# Altium footprint library JLC_25.PcbLib: 87 footprints (part 2 of 6)
Each footprint in its own frame and in the unit in brackets; x right, y up, seen from the top. Pads: shape width x height; smd on the part's side, far side on the other; paste and mask are expansions set on the pad; w line width, h text height; cw(c..) or ccw(c..) is an arc to the next point about the centre after c.
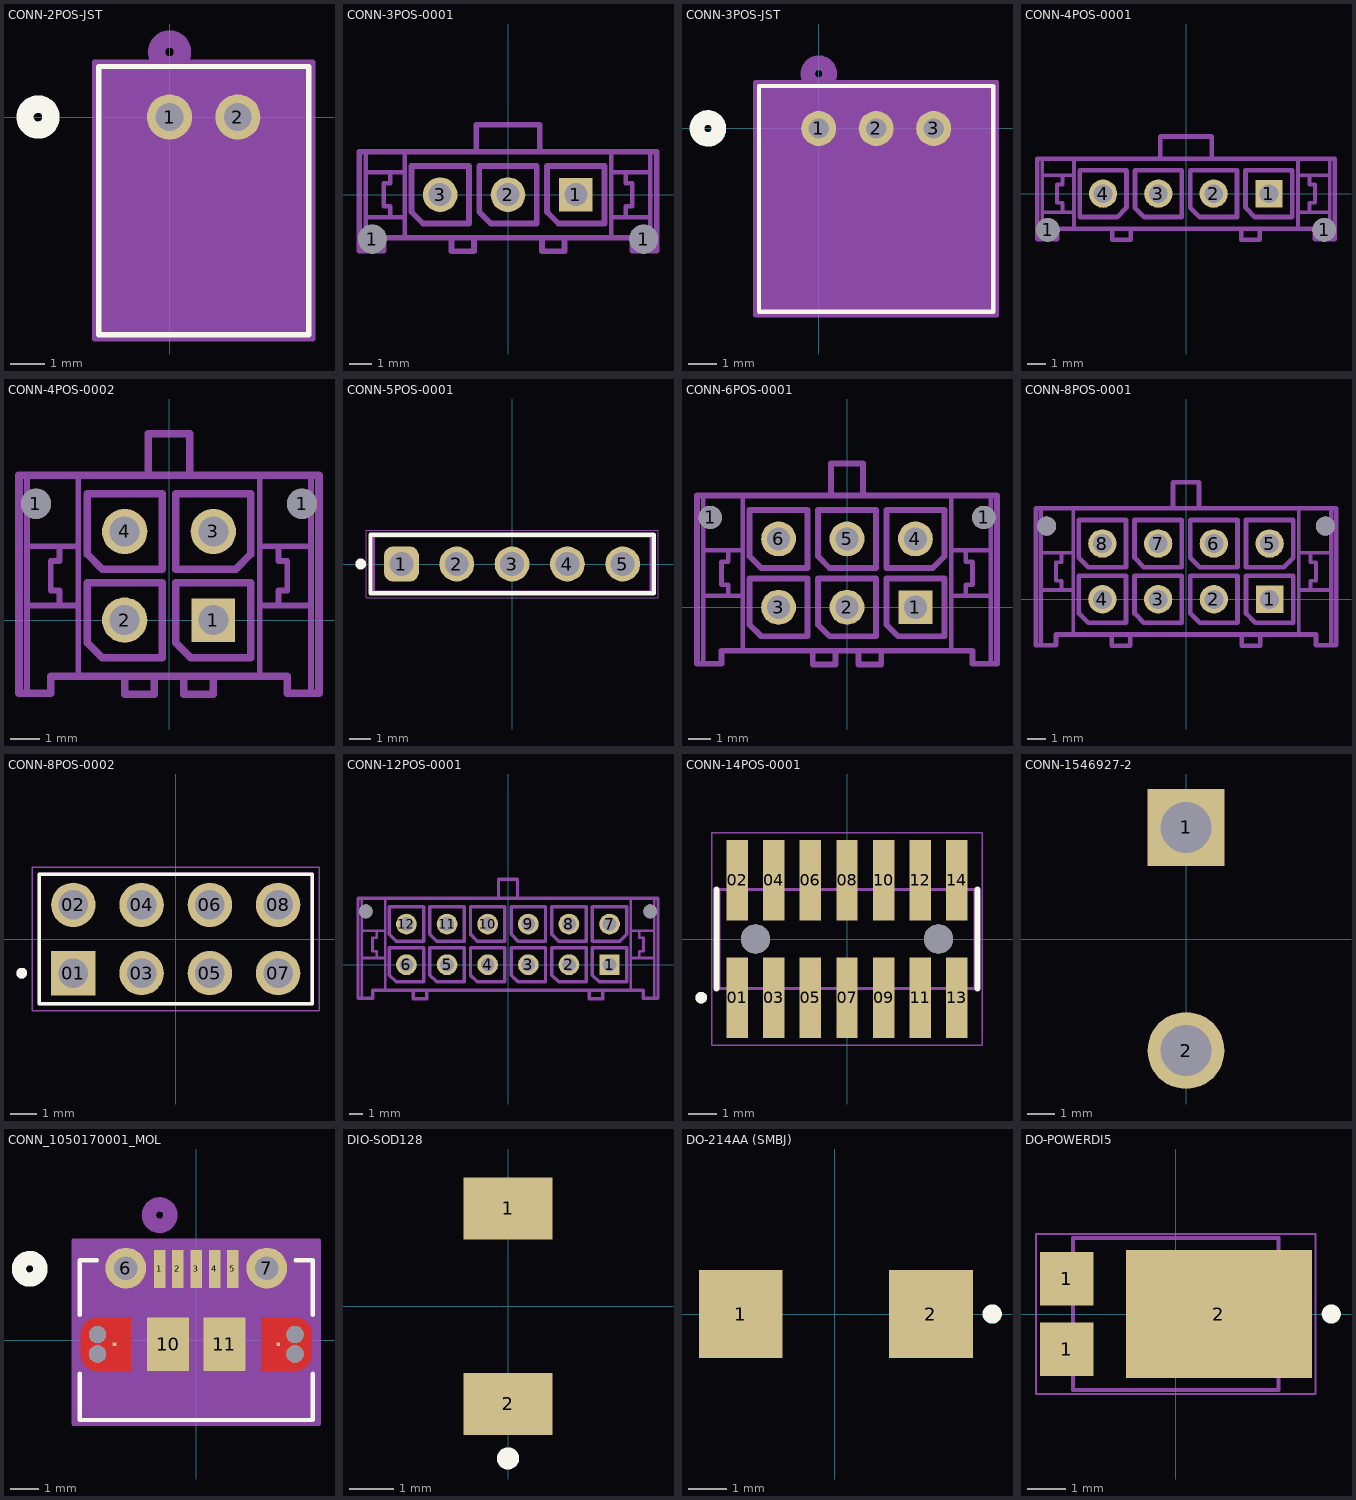
[diagram p1: the footprints below, top view; thin cyan lines are the x and y axes]

## CONN-2POS-JST [mil]
pads (2):
  round 52 / inner round 60 / far side round 52 hole 32 paste-99999 mask+0: 1(0,0) 2(78.74,0)
Top Overlay:
  circle w20: c-151.63,0 r15
  lines w6: -81.63,-250.85 -81.63,58.15 160.37,58.15 160.37,-250.85 -81.63,-250.85
Bottom Overlay:
  circle w20: c-151.63,0 r15
Mechanical 13:
  circle w20: c0,75 r15
  lines w1: -76.63,-245.85 -76.63,53.15 155.37,53.15 155.37,-245.85 -76.63,-245.85
Mechanical 15:
  region: 165.37,63.15 -86.63,63.15 -86.63,-255.85 165.37,-255.85
  lines w6: -86.63,-255.85 165.37,-255.85 165.37,63.15 -86.63,63.15 -86.63,-255.85
3D body "S2B-PH-K-S.STEP": height 188.98, standoff -133.19, extent -81.63,-245.96 150.65,53.26

## CONN-3POS-0001 [mm]
pads (5):
  round 1.27 hole 1.27 unplated: 1(-6,-1.96) 1(6,-1.96)
  rect 1.482x1.482 / inner rect 1.524x1.524 / far side rect 1.482x1.482 hole 1.02: 1(3,0)
  round 1.53 / inner round 1.524 / far side round 1.53 hole 1.02: 2(0,0) 3(-3,0)
Mechanical 22:
  lines w0.2: -6.3,-2.47 -6.3,-1 ; -6.3,1.9 -6.3,1 ; -4.57,-1.9 -4.57,-1 ; -4.57,1.9 -4.57,1 ; 4.57,-1.9 4.57,-1 ; 4.57,1.9 4.57,1 ; 6.3,-2.47 6.3,-1 ; 6.3,1.9 6.3,1 ; -6.3,-1 -5.2,-1 ; -6.3,-1 -6.3,1 ; -6.3,1 -5.2,1 ; -5.2,-1 -5.2,-0.5 -5.5,-0.5 -5.5,0.5 -5.2,0.5 -5.2,1 ; -5.2,-1 -4.57,-1 ; -5.2,1 -4.57,1 ; -4.57,-1 -4.57,1 ; 4.57,-1 5.2,-1 ; 4.57,-1 4.57,1 ; 4.57,1 5.2,1 ; 5.2,-1 5.2,-0.5 5.5,-0.5 5.5,0.5 5.2,0.5 5.2,1 ; 5.2,-1 6.3,-1 ; 5.2,1 6.3,1 ; 6.3,-1 6.3,1
  lines w0.254: -2.5,-1.9 -2.5,-2.5 -1.5,-2.5 -1.5,-1.9 ; -2.5,-1.9 -4.57,-1.9 -5.5,-1.9 -5.5,-2.47 -6.3,-2.47 -6.575,-2.47 -6.575,1.9 -6.3,1.9 -4.57,1.9 -1.4,1.9 ; -2.5,-1.9 -1.5,-1.9 ; -1.5,-1.9 1.5,-1.9 ; -1.4,1.9 -1.4,3.1 1.4,3.1 1.4,1.9 ; -1.4,1.9 1.4,1.9 ; 1.4,1.9 4.57,1.9 6.3,1.9 6.575,1.9 6.575,-2.47 6.3,-2.47 5.5,-2.47 5.5,-1.9 4.57,-1.9 2.5,-1.9 ; 1.5,-1.9 1.5,-2.5 2.5,-2.5 2.5,-1.9 ; 1.5,-1.9 2.5,-1.9 ; -4.27,-0.762 -3.762,-1.27 -1.73,-1.27 -1.73,1.27 -4.27,1.27 -4.27,-0.762 ; -1.27,-0.762 -0.762,-1.27 1.27,-1.27 1.27,1.27 -1.27,1.27 -1.27,-0.762 ; 1.73,-0.762 2.238,-1.27 4.27,-1.27 4.27,1.27 1.73,1.27 1.73,-0.762
3D body "436500316.stp": height 10.03, standoff -3.05, extent -6.325,-2.47 6.325,3.135

## CONN-3POS-JST [mil]
pads (3):
  round 48 / inner round 60 / far side round 48 hole 28 paste-99999 mask+0: 1(0,0) 2(78.74,0) 3(157.48,0)
Top Overlay:
  circle w20: c-151.76,0 r15
  lines w6: -81.76,-250.85 239.24,-250.85 239.24,58.15 -81.76,58.15 -81.76,-250.85
Bottom Overlay:
  circle w20: c-151.76,0 r15
Mechanical 13:
  circle w20: c0,75 r15
  lines w1: -76.76,-245.85 234.24,-245.85 234.24,53.15 -76.76,53.15 -76.76,-245.85
Mechanical 15:
  region: 244.24,63.15 -86.76,63.15 -86.76,-255.85 244.24,-255.85
  lines w6: -86.76,-255.85 -86.76,63.15 244.24,63.15 244.24,-255.85 -86.76,-255.85
3D body "S3B-PH-K-S.STEP": height 188.98, standoff -133.87, extent -76.77,-246.06 234.25,53.15

## CONN-4POS-0001 [mm]
pads (6):
  round 1.27 hole 1.27 unplated: 1(-7.5,-1.96) 1(7.5,-1.96)
  rect 1.482x1.482 / inner rect 1.524x1.524 / far side rect 1.482x1.482 hole 1.02: 1(4.5,0)
  round 1.53 / inner round 1.524 / far side round 1.53 hole 1.02: 2(1.5,0) 3(-1.5,0) 4(-4.5,0)
Mechanical 22:
  lines w0.2: -7.8,-2.47 -7.8,-1 ; -7.8,1.9 -7.8,1 ; -6.07,-1.9 -6.07,-1 ; -6.07,1.9 -6.07,1 ; 6.07,-1.9 6.07,-1 ; 6.07,1.9 6.07,1 ; 7.8,-2.47 7.8,-1 ; 7.8,1.9 7.8,1 ; -7.8,-1 -7.8,1 ; -7.8,-1 -6.7,-1 ; -7.8,1 -6.7,1 ; -6.7,-1 -6.07,-1 ; -6.7,-1 -6.7,-0.5 -7,-0.5 -7,0.5 -6.7,0.5 -6.7,1 ; -6.7,1 -6.07,1 ; -6.07,-1 -6.07,1 ; 6.07,-1 6.07,1 ; 6.07,-1 6.7,-1 ; 6.07,1 6.7,1 ; 6.7,-1 7.8,-1 ; 6.7,-1 6.7,-0.5 7,-0.5 7,0.5 6.7,0.5 6.7,1 ; 6.7,1 7.8,1 ; 7.8,-1 7.8,1
  lines w0.254: -4,-1.9 -3,-1.9 ; -4,-1.9 -6.07,-1.9 -7,-1.9 -7,-2.47 -7.8,-2.47 -8.075,-2.47 -8.075,1.9 -7.8,1.9 -6.07,1.9 -1.4,1.9 ; -4,-1.9 -4,-2.5 -3,-2.5 -3,-1.9 ; -3,-1.9 3,-1.9 ; -1.4,1.9 1.4,1.9 ; -1.4,1.9 -1.4,3.1 1.4,3.1 1.4,1.9 ; 1.4,1.9 6.07,1.9 7.8,1.9 8.075,1.9 8.075,-2.47 7.8,-2.47 7,-2.47 7,-1.9 6.07,-1.9 4,-1.9 ; 3,-1.9 4,-1.9 ; 3,-1.9 3,-2.5 4,-2.5 4,-1.9 ; -5.77,-1.27 -5.77,1.27 -3.23,1.27 -3.23,-0.762 -3.738,-1.27 -5.77,-1.27 ; -2.77,-0.762 -2.77,1.27 -0.23,1.27 -0.23,-1.27 -2.262,-1.27 -2.77,-0.762 ; 0.23,-0.762 0.23,1.27 2.77,1.27 2.77,-1.27 0.738,-1.27 0.23,-0.762 ; 3.23,-0.762 3.23,1.27 5.77,1.27 5.77,-1.27 3.738,-1.27 3.23,-0.762
3D body "436500415.stp": height 10.03, standoff -3.05, extent -7.825,-2.47 7.825,3.135

## CONN-4POS-0002 [mm]
pads (6):
  round 1.02 hole 1.02 unplated: 1(-4.5,3.94) 1(4.5,3.94)
  rect 1.482x1.482 / inner rect 1.524x1.524 / far side rect 1.482x1.482 hole 1.02: 1(1.5,0)
  round 1.53 / inner round 1.524 / far side round 1.53 hole 1.02: 2(-1.5,0) 3(1.5,3) 4(-1.5,3)
Mechanical 22:
  lines w0.2: -4.8,-2.47 -4.8,0.5 ; -4.8,4.9 -4.8,2.5 ; -3.07,-1.9 -3.07,0.5 ; -3.07,4.9 -3.07,2.5 ; 3.07,-1.9 3.07,0.5 ; 3.07,4.9 3.07,2.5 ; 4.8,-2.47 4.8,0.5 ; 4.8,4.9 4.8,2.5 ; -4.8,0.5 -3.7,0.5 ; -4.8,0.5 -4.8,2.5 ; -4.8,2.5 -3.7,2.5 ; -3.7,0.5 -3.7,1 -4,1 -4,2 -3.7,2 -3.7,2.5 ; -3.7,0.5 -3.07,0.5 ; -3.7,2.5 -3.07,2.5 ; -3.07,0.5 -3.07,2.5 ; 3.07,0.5 3.7,0.5 ; 3.07,0.5 3.07,2.5 ; 3.07,2.5 3.7,2.5 ; 3.7,0.5 3.7,1 4,1 4,2 3.7,2 3.7,2.5 ; 3.7,0.5 4.8,0.5 ; 3.7,2.5 4.8,2.5 ; 4.8,0.5 4.8,2.5
  lines w0.254: -1.5,-1.9 -1.5,-2.5 -0.5,-2.5 -0.5,-1.9 ; -1.5,-1.9 -3.07,-1.9 -4,-1.9 -4,-2.47 -4.8,-2.47 -5.075,-2.47 -5.075,4.9 -4.8,4.9 -3.07,4.9 -0.7,4.9 ; -1.5,-1.9 -0.5,-1.9 ; -0.7,4.9 -0.7,6.3 0.7,6.3 0.7,4.9 ; -0.7,4.9 0.7,4.9 ; -0.5,-1.9 0.5,-1.9 ; 0.5,-1.9 0.5,-2.5 1.5,-2.5 1.5,-1.9 ; 0.5,-1.9 1.5,-1.9 ; 0.7,4.9 3.07,4.9 4.8,4.9 5.075,4.9 5.075,-2.47 4.8,-2.47 4,-2.47 4,-1.9 3.07,-1.9 1.5,-1.9 ; -2.77,-0.762 -2.262,-1.27 -0.23,-1.27 -0.23,1.27 -2.77,1.27 -2.77,-0.762 ; -2.77,2.238 -2.262,1.73 -0.23,1.73 -0.23,4.27 -2.77,4.27 -2.77,2.238 ; 0.23,-0.762 0.738,-1.27 2.77,-1.27 2.77,1.27 0.23,1.27 0.23,-0.762
Bottom 3D Body:
  lines w0.254: 0.23,1.73 2.262,1.73 2.77,2.238 2.77,4.27 0.23,4.27 0.23,1.73
3D body "430450412.stp": height 10.03, standoff -3.06, extent -5.075,-2.446 5.075,6.324

## CONN-5POS-0001 [mm] "Pin Header, pitch 2.54 mm, THT, Vertical, single row, 5p"
height 8.54
pads (5):
  rrect50% 1.6x1.6 hole 1.1: 1(-5.08,0)
  round 1.6 hole 1.1: 2(-2.54,0) 3(0,0) 4(2.54,0) 5(5.08,0)
Top Overlay:
  circle w0.25: c-6.95,0 r0.125
  lines w0.2: -6.5,-1.345 6.5,-1.345 6.5,1.345 -6.5,1.345 -6.5,-1.345
Top Courtyard:
  lines w0.05: -6.7,-1.545 -6.7,1.545 6.7,1.545 6.7,-1.545 -6.7,-1.545
Top Component Outline:
  lines w0.1: -6.35,-1.27 -6.35,1.27 6.35,1.27 6.35,-1.27 -6.35,-1.27
Top Component Center:
  lines w0.05: -0.5,0 0.5,0 ; 0,-0.5 0,0.5
3D body "61300511121.stp": height 8.57, standoff -2.97, extent -6.35,-1.27 6.35,1.27

## CONN-6POS-0001 [mm]
pads (8):
  round 1.02 hole 1.02 unplated: 1(-6,3.94) 1(6,3.94)
  rect 1.482x1.482 / inner rect 1.524x1.524 / far side rect 1.482x1.482 hole 1.02: 1(3,0)
  round 1.53 / inner round 1.524 / far side round 1.53 hole 1.02: 2(0,0) 3(-3,0) 4(3,3) 5(0,3) 6(-3,3)
Mechanical 22:
  lines w0.2: -6.3,-2.47 -6.3,-1.7 -6.3,-1 -6.3,0.5 ; -6.3,4.9 -6.3,4 -6.3,2.5 ; -4.57,-1.9 -4.57,-1 -4.57,0.5 ; -4.57,4.9 -4.57,4 -4.57,2.5 ; 4.57,-1.9 4.57,-1 4.57,0.5 ; 4.57,4.9 4.57,4 4.57,2.5 ; 6.3,-2.47 6.3,-1.7 6.3,-1 6.3,0.5 ; 6.3,4.9 6.3,4 6.3,2.5 ; -6.3,0.5 -6.3,2.5 ; -6.3,0.5 -5.2,0.5 ; -6.3,2.5 -5.2,2.5 ; -5.2,0.5 -4.57,0.5 ; -5.2,0.5 -5.2,1 -5.5,1 -5.5,2 -5.2,2 -5.2,2.5 ; -5.2,2.5 -4.57,2.5 ; -4.57,0.5 -4.57,2.5 ; 4.57,0.5 4.57,2.5 ; 4.57,0.5 5.2,0.5 ; 4.57,2.5 5.2,2.5 ; 5.2,0.5 6.3,0.5 ; 5.2,0.5 5.2,1 5.5,1 5.5,2 5.2,2 5.2,2.5 ; 5.2,2.5 6.3,2.5 ; 6.3,0.5 6.3,2.5
  lines w0.254: -1.5,-1.9 -0.5,-1.9 ; -1.5,-1.9 -4.57,-1.9 -5.5,-1.9 -5.5,-2.47 -6.3,-2.47 -6.575,-2.47 -6.575,4.9 -6.3,4.9 -4.57,4.9 -0.7,4.9 ; -1.5,-1.9 -1.5,-2.5 -0.5,-2.5 -0.5,-1.9 ; -0.7,4.9 0.7,4.9 ; -0.7,4.9 -0.7,6.3 0.7,6.3 0.7,4.9 ; -0.5,-1.9 0.5,-1.9 ; 0.5,-1.9 1.5,-1.9 ; 0.5,-1.9 0.5,-2.5 1.5,-2.5 1.5,-1.9 ; 0.7,4.9 4.57,4.9 6.3,4.9 6.575,4.9 6.575,-2.47 6.3,-2.47 5.5,-2.47 5.5,-1.9 4.57,-1.9 1.5,-1.9 ; -4.27,-0.762 -4.27,1.27 -1.73,1.27 -1.73,-1.27 -3.762,-1.27 -4.27,-0.762 ; -4.27,2.238 -4.27,4.27 -1.73,4.27 -1.73,1.73 -3.762,1.73 -4.27,2.238 ; -1.27,-0.762 -1.27,1.27 1.27,1.27 1.27,-1.27 -0.762,-1.27 -1.27,-0.762 ; -1.27,2.238 -1.27,4.27 1.27,4.27 1.27,1.73 -0.762,1.73 -1.27,2.238 ; 1.73,-0.762 1.73,1.27 4.27,1.27 4.27,-1.27 2.238,-1.27 1.73,-0.762
Bottom 3D Body:
  lines w0.254: 1.73,1.73 1.73,4.27 4.27,4.27 4.27,2.238 3.762,1.73 1.73,1.73
3D body "430450612.stp": height 10.03, standoff -3.06, extent -6.575,-2.446 6.575,6.324

## CONN-8POS-0001 [mm]
pads (10):
  rect 1.482x1.482 / inner rect 1.524x1.524 / far side rect 1.482x1.482 hole 1.02: 1(4.5,0)
  round 1.53 / inner round 1.524 / far side round 1.53 hole 1.02: 2(1.5,0) 3(-1.5,0) 4(-4.5,0) 5(4.5,3) 6(1.5,3) 7(-1.5,3) 8(-4.5,3)
  round 1.02 hole 1.02 unplated: ""(-7.5,3.94) ""(7.5,3.94)
Mechanical 22:
  lines w0.2: -7.8,-2.47 -7.8,0.5 ; -7.8,4.9 -7.8,2.5 ; -6.07,-1.9 -6.07,0.5 ; -6.07,4.9 -6.07,2.5 ; 6.07,-1.9 6.07,0.5 ; 6.07,4.9 6.07,2.5 ; 7.8,-2.47 7.8,0.5 ; 7.8,4.9 7.8,2.5 ; -7.8,0.5 -6.7,0.5 ; -7.8,0.5 -7.8,2.5 ; -7.8,2.5 -6.7,2.5 ; -6.7,0.5 -6.7,1 -7,1 -7,2 -6.7,2 -6.7,2.5 ; -6.7,0.5 -6.07,0.5 ; -6.7,2.5 -6.07,2.5 ; -6.07,0.5 -6.07,2.5 ; 6.07,0.5 6.7,0.5 ; 6.07,0.5 6.07,2.5 ; 6.07,2.5 6.7,2.5 ; 6.7,0.5 6.7,1 7,1 7,2 6.7,2 6.7,2.5 ; 6.7,0.5 7.8,0.5 ; 6.7,2.5 7.8,2.5 ; 7.8,0.5 7.8,2.5
  lines w0.254: -4,-1.9 -4,-2.5 -3,-2.5 -3,-1.9 ; -4,-1.9 -6.07,-1.9 -7,-1.9 -7,-2.47 -7.8,-2.47 -8.075,-2.47 -8.075,4.9 -7.8,4.9 -6.07,4.9 -0.7,4.9 ; -4,-1.9 -3,-1.9 ; -3,-1.9 3,-1.9 ; -0.7,4.9 -0.7,6.3 0.7,6.3 0.7,4.9 ; -0.7,4.9 0.7,4.9 ; 0.7,4.9 6.07,4.9 7.8,4.9 8.075,4.9 8.075,-2.47 7.8,-2.47 7,-2.47 7,-1.9 6.07,-1.9 4,-1.9 ; 3,-1.9 3,-2.5 4,-2.5 4,-1.9 ; 3,-1.9 4,-1.9 ; -5.77,-0.762 -5.262,-1.27 -3.23,-1.27 -3.23,1.27 -5.77,1.27 -5.77,-0.762 ; -5.77,2.238 -5.262,1.73 -3.23,1.73 -3.23,4.27 -5.77,4.27 -5.77,2.238 ; -2.77,-0.762 -2.262,-1.27 -0.23,-1.27 -0.23,1.27 -2.77,1.27 -2.77,-0.762 ; -2.77,2.238 -2.262,1.73 -0.23,1.73 -0.23,4.27 -2.77,4.27 -2.77,2.238 ; 0.23,-0.762 0.738,-1.27 2.77,-1.27 2.77,1.27 0.23,1.27 0.23,-0.762 ; 0.23,2.238 0.738,1.73 2.77,1.73 2.77,4.27 0.23,4.27 0.23,2.238 ; 3.23,-0.762 3.738,-1.27 5.77,-1.27 5.77,1.27 3.23,1.27 3.23,-0.762
Bottom 3D Body:
  lines w0.254: 3.23,1.73 5.262,1.73 5.77,2.238 5.77,4.27 3.23,4.27 3.23,1.73
3D body "430450812.stp": height 10.03, standoff -3.06, extent -8.075,-2.446 8.075,6.324

## CONN-8POS-0002 [mm]
pads (8):
  rect 1.65x1.65 / inner round 1.65 / far side rect 1.65x1.65 hole 1.1: 01(-3.81,-1.27)
  round 1.65 hole 1.1: 02(-3.81,1.27) 03(-1.27,-1.27) 04(-1.27,1.27) 05(1.27,-1.27) 06(1.27,1.27) 07(3.81,-1.27) 08(3.81,1.27)
Top Overlay:
  circle w0.2: c-5.73,-1.27 r0.1
  lines w0.127: -5.08,-2.415 -5.08,2.415 5.08,2.415 5.08,-2.415 -5.08,-2.415
Mechanical 13:
  circle w0.2: c-5.73,-1.27 r0.1
  lines w0.127: -5.08,-2.415 -5.08,2.415 ; -5.08,-2.415 5.08,-2.415 ; -5.08,-2.415 -5.08,2.415 ; -5.08,2.415 5.08,2.415 ; -5.08,2.415 5.08,2.415 ; 5.08,-2.415 5.08,2.415 ; 5.08,-2.415 5.08,2.415
Mechanical 15:
  lines w0.05: -5.33,-2.665 -5.33,2.665 5.33,2.665 5.33,-2.665 -5.33,-2.665
3D body "step_temp.STEP": height 8.38, standoff -3.81, extent -5.08,-2.415 5.08,2.415

## CONN-12POS-0001 [mm]
pads (14):
  rect 1.482x1.482 / inner rect 1.524x1.524 / far side rect 1.482x1.482 hole 1.02: 1(7.5,0)
  round 1.53 / inner round 1.524 / far side round 1.53 hole 1.02: 2(4.5,0) 3(1.5,0) 4(-1.5,0) 5(-4.5,0) 6(-7.5,0) 7(7.5,3) 8(4.5,3) 9(1.5,3) 10(-1.5,3) 11(-4.5,3) 12(-7.5,3)
  round 1.02 hole 1.02 unplated: ""(-10.5,3.94) ""(10.5,3.94)
Mechanical 22:
  lines w0.2: -10.8,-2.47 -10.8,0.5 ; -10.8,4.9 -10.8,2.5 ; -9.07,-1.9 -9.07,0.5 ; -9.07,4.9 -9.07,2.5 ; 9.07,-1.9 9.07,0.5 ; 9.07,4.9 9.07,2.5 ; 10.8,-2.47 10.8,0.5 ; 10.8,4.9 10.8,2.5 ; -10.8,0.5 -10.8,2.5 ; -10.8,0.5 -9.7,0.5 ; -10.8,2.5 -9.7,2.5 ; -9.7,0.5 -9.07,0.5 ; -9.7,0.5 -9.7,1 -10,1 -10,2 -9.7,2 -9.7,2.5 ; -9.7,2.5 -9.07,2.5 ; -9.07,0.5 -9.07,2.5 ; 9.07,0.5 9.07,2.5 ; 9.07,0.5 9.7,0.5 ; 9.07,2.5 9.7,2.5 ; 9.7,0.5 10.8,0.5 ; 9.7,0.5 9.7,1 10,1 10,2 9.7,2 9.7,2.5 ; 9.7,2.5 10.8,2.5 ; 10.8,0.5 10.8,2.5
  lines w0.254: -7,-1.9 -6,-1.9 ; -7,-1.9 -9.07,-1.9 -10,-1.9 -10,-2.47 -10.8,-2.47 -11.075,-2.47 -11.075,4.9 -10.8,4.9 -9.07,4.9 -0.7,4.9 ; -7,-1.9 -7,-2.5 -6,-2.5 -6,-1.9 ; -6,-1.9 6,-1.9 ; -0.7,4.9 0.7,4.9 ; -0.7,4.9 -0.7,6.3 0.7,6.3 0.7,4.9 ; 0.7,4.9 9.07,4.9 10.8,4.9 11.075,4.9 11.075,-2.47 10.8,-2.47 10,-2.47 10,-1.9 9.07,-1.9 7,-1.9 ; 6,-1.9 7,-1.9 ; 6,-1.9 6,-2.5 7,-2.5 7,-1.9 ; -8.77,-0.762 -8.77,1.27 -6.23,1.27 -6.23,-1.27 -8.262,-1.27 -8.77,-0.762 ; -8.77,2.238 -8.77,4.27 -6.23,4.27 -6.23,1.73 -8.262,1.73 -8.77,2.238 ; -5.77,-0.762 -5.77,1.27 -3.23,1.27 -3.23,-1.27 -5.262,-1.27 -5.77,-0.762 ; -5.77,2.238 -5.77,4.27 -3.23,4.27 -3.23,1.73 -5.262,1.73 -5.77,2.238 ; -2.77,-0.762 -2.77,1.27 -0.23,1.27 -0.23,-1.27 -2.262,-1.27 -2.77,-0.762 ; -2.77,2.238 -2.77,4.27 -0.23,4.27 -0.23,1.73 -2.262,1.73 -2.77,2.238 ; 0.23,-0.762 0.23,1.27 2.77,1.27 2.77,-1.27 0.738,-1.27 0.23,-0.762 ; 0.23,2.238 0.23,4.27 2.77,4.27 2.77,1.73 0.738,1.73 0.23,2.238 ; 3.23,-0.762 3.23,1.27 5.77,1.27 5.77,-1.27 3.738,-1.27 3.23,-0.762 ; 3.23,2.238 3.23,4.27 5.77,4.27 5.77,1.73 3.738,1.73 3.23,2.238 ; 6.23,-0.762 6.23,1.27 8.77,1.27 8.77,-1.27 6.738,-1.27 6.23,-0.762
Bottom 3D Body:
  lines w0.254: 6.23,1.73 6.23,4.27 8.77,4.27 8.77,2.238 8.262,1.73 6.23,1.73
3D body "430451212.stp": height 4.95, standoff -8.14, extent -11.075,-2.543 11.075,6.227

## CONN-14POS-0001 [mm]
height 6.23
pads (16):
  rect 0.74x2.79 smd: 01(-3.81,-2.035) 02(-3.81,2.035) 03(-2.54,-2.035) 04(-2.54,2.035) 05(-1.27,-2.035) 06(-1.27,2.035) 07(0,-2.035) 08(0,2.035) 09(1.27,-2.035) 10(1.27,2.035) 11(2.54,-2.035) 12(2.54,2.035) 13(3.81,-2.035) 14(3.81,2.035)
  round 1.02 hole 1.02 unplated mask+0.051: ""(-3.175,0) ""(3.175,0)
Top Overlay:
  circle w0.2: c-5.06,-2.035 r0.1
  lines w0.2: -4.53,-1.715 -4.53,1.715 ; 4.53,-1.715 4.53,1.715
Top Paste:
  region: -0.9,-3.427 -1.64,-3.427 -1.64,-0.637 -0.9,-0.637
  region: -0.9,0.637 -1.64,0.637 -1.64,3.427 -0.9,3.427
  region: 0.37,-3.427 -0.37,-3.427 -0.37,-0.637 0.37,-0.637
  region: 0.37,0.637 -0.37,0.637 -0.37,3.427 0.37,3.427
  region: 1.64,-3.427 0.9,-3.427 0.9,-0.637 1.64,-0.637
  region: 1.64,0.637 0.9,0.637 0.9,3.427 1.64,3.427
  region: 2.91,-3.427 2.17,-3.427 2.17,-0.637 2.91,-0.637
  region: 2.91,0.637 2.17,0.637 2.17,3.427 2.91,3.427
  region: 4.18,-3.427 3.44,-3.427 3.44,-0.637 4.18,-0.637
  region: 4.18,0.637 3.44,0.637 3.44,3.427 4.18,3.427
Mechanical 13:
  circle w0.2: c-5.06,-2.035 r0.1
  lines w0.1: -4.445,-1.715 -4.445,1.715 4.445,1.715 4.445,-1.715 -4.445,-1.715
Mechanical 15:
  lines w0.05: -4.695,-3.68 -4.695,3.68 4.695,3.68 4.695,-3.68 -4.695,-3.68
3D body "FTSH-107-01-L-DV-K-A.stp": height 5.71, standoff -1.27, extent -4.445,-2.921 4.445,2.921

## CONN-1546927-2 [mm]
pads (2):
  rect 2.85x2.85 hole 1.9: 1(0,4.127)
  round 2.85 hole 1.9: 2(0,-4.127)
3D body "1546927-2.stp": height 14.99, standoff -5.08, extent -11.565,-8.852 4.494,8.852

## CONN_1050170001_MOL [mil]
pads (15):
  rect 16x53 smd paste+0 mask+0: 1(-51.18,99.61) 2(-25.59,99.61) 3(0,99.61) 4(25.59,99.61) 5(51.18,99.61)
  round 57 / inner round 60 / far side round 57 hole 33 paste-99999 mask-28.5: 6(-98.43,100.59) 7(98.43,100.59)
  rect 5x5 smd paste-2.5 mask-2.5: 8(-114.17,-5.7) 9(114.17,-5.7)
  rect 59x75 smd paste-37.5 mask-37.5: 10(-39.37,-5.7) 11(39.37,-5.7)
  round 24 / inner round 60 / far side round 24 hole 24 unplated paste-99999 mask+0: S_1_H1(-137.8,7.8) S_1_H2(-137.8,-19.2) S_2_H1(137.8,7.8) S_2_H2(137.8,-19.2)
Top Layer:
  region: -142.38,31.34 -137.67,31.8 -90.67,31.8 -90.67,-43.2 -137.67,-43.2 -142.38,-42.75 -146.79,-41.42 -150.85,-39.24 -154.41,-36.32 -157.33,-32.76 -159.51,-28.7 -160.84,-24.29 -161.3,-19.7 -161.3,8.3 -160.84,12.88 -159.51,17.29 -157.33,21.35 -154.41,24.91 -150.85,27.83 -146.79,30.01
  region: 90.67,-43.2 90.67,31.8 137.8,31.8 142.38,31.34 146.79,30.01 150.85,27.83 154.41,24.91 157.33,21.35 159.51,17.29 160.84,12.88 161.3,8.3 161.3,-19.7 160.84,-24.29 159.51,-28.7 157.33,-32.76 154.41,-36.32 150.85,-39.24 146.79,-41.42 142.38,-42.75 137.8,-43.2
Top Overlay:
  circle w20: c-232.5,99.61 r15
  lines w6: -162.5,-46.71 -162.5,-111.5 162.5,-111.5 162.5,-46.71 ; -162.5,35.3 -162.5,111.5 -138.57,111.5 ; 138.57,111.5 162.5,111.5 162.5,35.3
Bottom Overlay:
  circle w20: c-232.5,99.61 r15
Mechanical 13:
  circle w20: c-51.18,174.61 r15
  lines w1: -157.5,-106.5 -157.5,106.5 157.5,106.5 157.5,-106.5 -157.5,-106.5
Mechanical 15:
  region: 171.3,139.09 -171.3,139.09 -171.3,-116.5 171.3,-116.5
  lines w6: -171.3,-116.5 171.3,-116.5 171.3,139.09 -171.3,139.09 -171.3,-116.5
Multi-Layer:
  lines w24: -232.5,-19.2 -232.5,7.8 ; -137.8,-19.2 -137.8,7.8 ; 137.8,-19.2 137.8,7.8
3D body "1050170001.stp": height 113.07, standoff -16.85, extent -161.42,-99.27 161.42,113.33

## DIO-SOD128 [mm]
pads (2):
  rect 2x1.4 smd: 1(0,2.2) 2(0,-2.2)
Top Overlay:
  circle w0.25: c0,-3.429 r0.125
3D body "RB081LAM-20TR--3DModel-STEP-56544.STEP": height 1.05, standoff 0, extent -1.25,-2.35 1.25,2.35

## DO-214AA (SMBJ) [mm]
pads (2):
  rect 2.16x2.26 smd: 1(-2.416,0) 2(2.484,0)
Top Overlay:
  circle w0.25: c4.064,0 r0.125
3D body "User Library-DIOM5539X24.STEP": height 2.45, standoff 0.03, extent -2.716,-1.95 2.784,1.95

## DO-POWERDI5 [mm] "SMD, 3-Leads, Body 3.975x5.375mm, Pitch 1.84mm"
height 1.15
pads (3):
  rect 1.4x1.39 smd: 1(-2.856,-0.92) 1(-2.856,0.92)
  rect 4.86x3.36 smd: 2(1.126,0)
Top Overlay:
  circle w0.25: c4.064,0 r0.125
Mechanical 13:
  lines w0.1: -2.688,-1.987 -2.688,1.987 2.688,1.987 2.688,-1.987 -2.688,-1.987
Mechanical 15:
  lines w0.05: -3.656,-2.087 -3.656,2.087 3.656,2.087 3.656,-2.087 -3.656,-2.087
  lines w0.1: -0.5,0 0.5,0 ; 0,-0.5 0,0.5
3D body "SDT5H100P5-7.step": height 1.15, standoff 0, extent -3.252,-1.983 3.252,1.983